# EAGLE library part MP1584EN (library chip)
MP1584EN
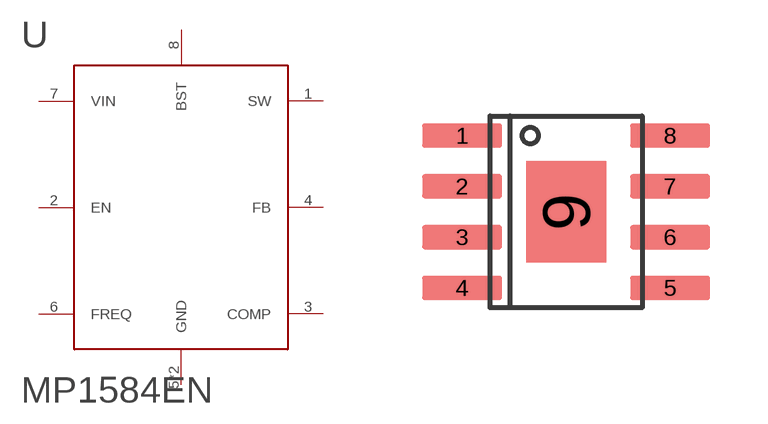
[diagram p2: symbol with the pads of SOIC8E; footprint SOIC8E]

Designator prefix U

## MP1584EN  [SOIC8E]
1  SW  pas
2  EN  in
3  COMP  pas
4  FB  in
5  GND  pas
6  FREQ  pas
7  VIN  pwr
8  BST  pas
9  GND  pas

## Footprint SOIC8E (pad centres in mm)
smd 2 x 0.6: 1 -2.6,2.54; 2 -2.6,1.27; 3 -2.6,0; 4 -2.6,-1.27; 5 2.6,-1.27; 6 2.6,0; 7 2.6,1.27; 8 2.6,2.54
smd 2 x 2.54: 9 0,0.635